# Altium schematic symbol library USB-Mini_USB-Micro_USB.SchLib: 33 symbols
Pins are listed as number, name and electrical type; pins without a type are passive.

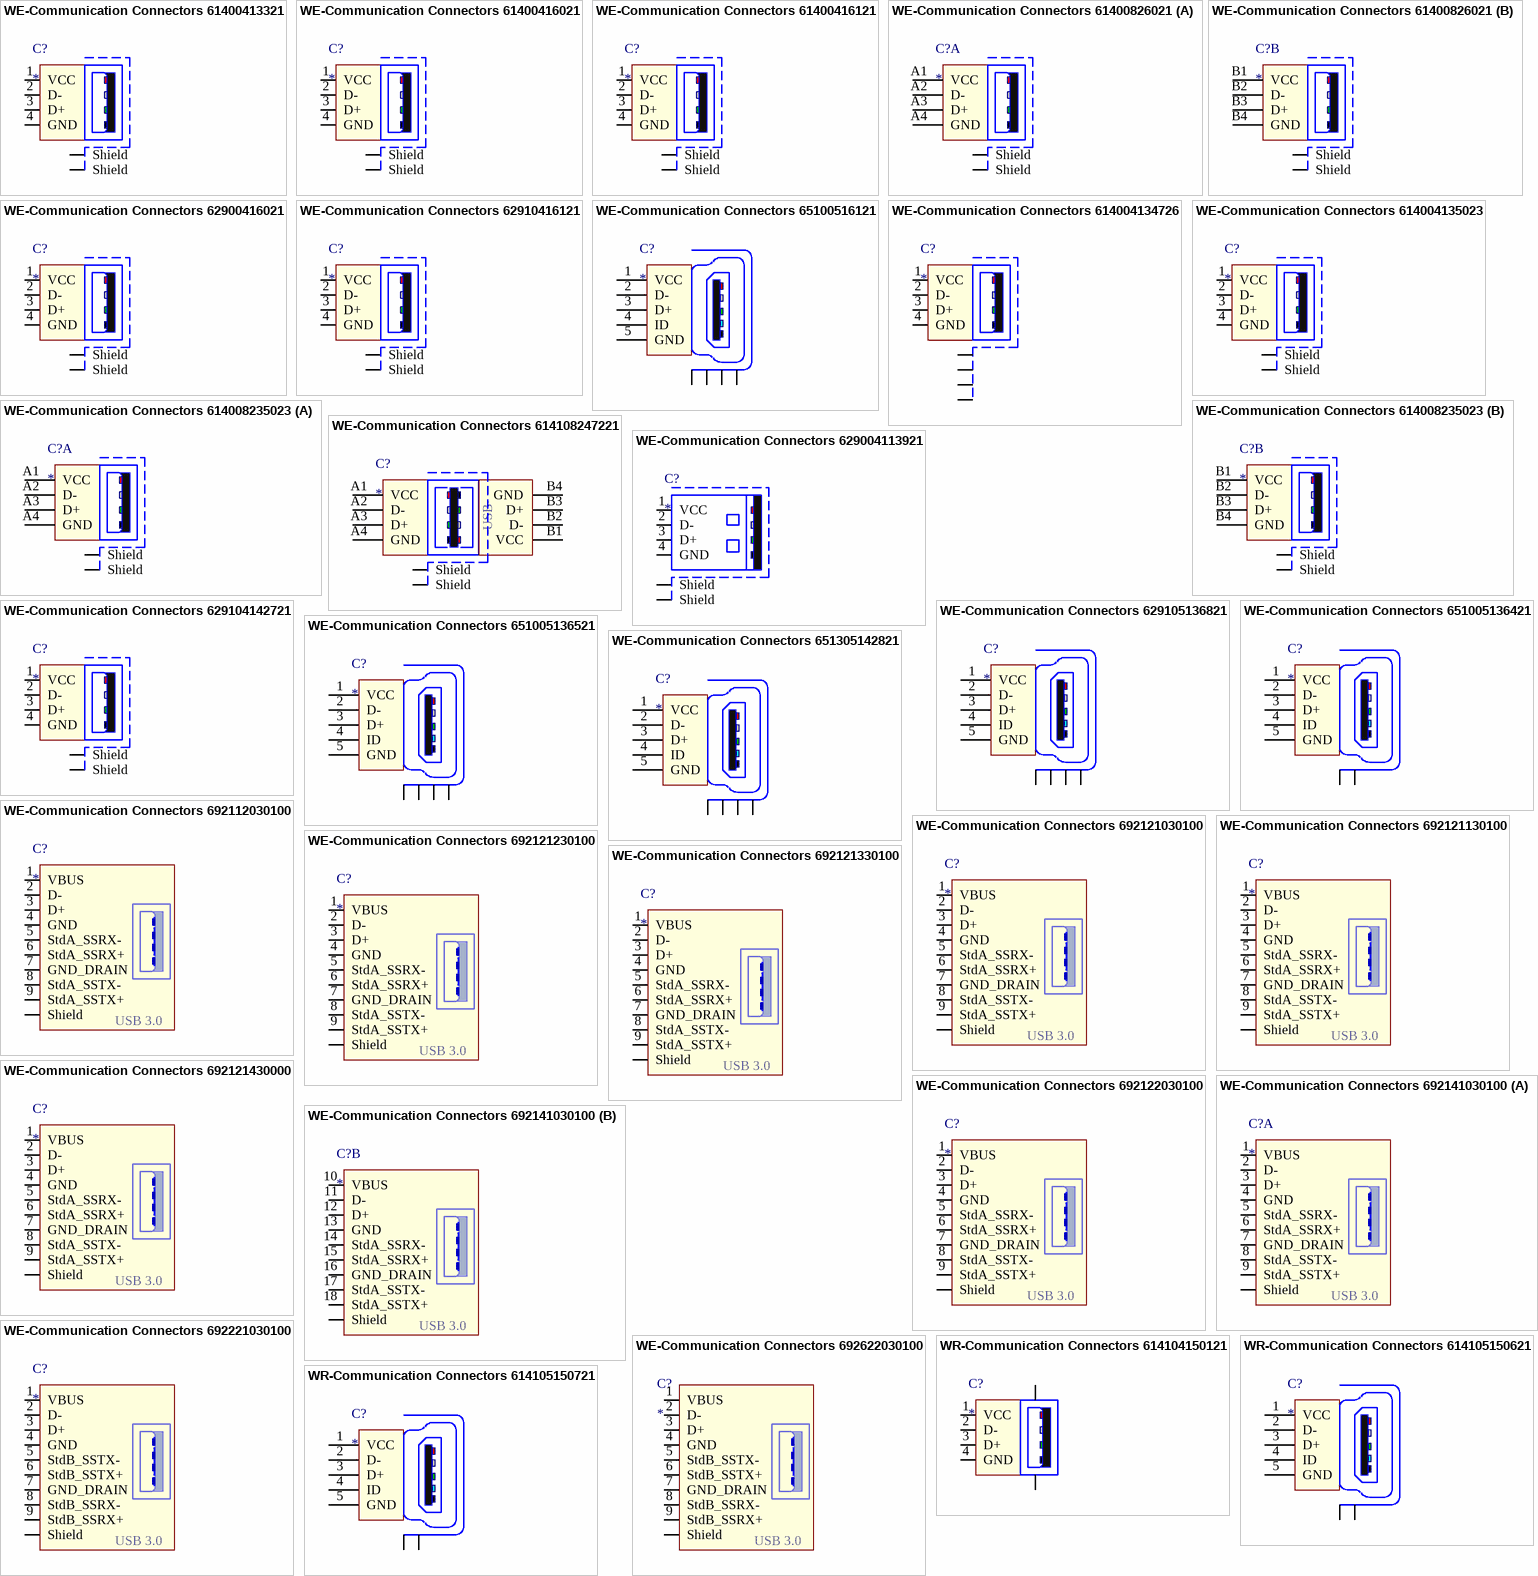
[diagram p0: symbols WE-Communication Connectors 61400413321 to WR-Communication Connectors 614105150721]

## WE-Communication Connectors 61400413321
designator C?
WR-COM USB Vertical Type B; Manufacturer: Würth Elektronik eiSos GmbH; partNo: 61400413321; ComponentLink1 Description: Manufacturer; ComponentLink2 Description: Datasheet; NoPins: 4; ComponentLink1URL: http://www.we-online.de; ComponentLink2URL: http://katalog.we-online.de/em/datasheet/61400413321.pdf; Created by: Karrer Zheng; Created Date: 10/10/2014
footprint 61400413321 (F Str 04p Btype vertical)
pins: 1 VCC, 2 D-, 3 D+, 4 GND, Z1 Shield, Z2 Shield

## WE-Communication Connectors 61400416021
designator C?
WR-COM USB RA Type A; Manufacturer: Würth Elektronik eiSos GmbH; partNo: 61400416021; ComponentLink1 Description: Manufacturer; ComponentLink2 Description: Datasheet; NoPins: 4; ComponentLink1URL: http://www.we-online.de; ComponentLink2URL: http://katalog.we-online.de/em/datasheet/61400416021.pdf; Created by: Karrer Zheng; Created Date: 10/10/2014
footprint 61400416021
pins: 1 VCC, 2 D-, 3 D+, 4 GND, Z1 Shield, Z2 Shield

## WE-Communication Connectors 61400416121
designator C?
WR-COM Horizontal USB Type B; Manufacturer: Würth Elektronik eiSos GmbH; partNo: 61400416121; ComponentLink1 Description: Manufacturer; ComponentLink2 Description: Datasheet; NoPins: 4; ComponentLink1URL: http://www.we-online.de; ComponentLink2URL: http://katalog.we-online.de/em/datasheet/61400416121.pdf; Created by: Karrer Zheng; Created Date: 10/10/2014
footprint 61400416121
pins: 1 VCC, 2 D-, 3 D+, 4 GND, Z1 Shield, Z2 Shield

## WE-Communication Connectors 61400826021
designator C?
WR-COM USB Type A Dual Stacked; Manufacturer: Würth Elektronik eiSos GmbH; partNo: 61400826021; ComponentLink1 Description: Manufacturer; ComponentLink2 Description: Datasheet; NoPins: 8; ComponentLink1URL: http://www.we-online.de; ComponentLink2URL: http://katalog.we-online.de/em/datasheet/61400826021.pdf; Created by: Karrer Zheng; Created Date: 10/10/2014
footprint 61400826021 (2 x 4 pins)
part A pins: A1 VCC, A2 D-, A3 D+, A4 GND, Z1 Shield, Z2 Shield
part B pins: B1 VCC, B2 D-, B3 D+, B4 GND, Z3 Shield, Z4 Shield

## WE-Communication Connectors 62900416021
designator C?
WR-COM USB SMT Type A; Manufacturer: Würth Elektronik eiSos GmbH; partNo: 62900416021; ComponentLink1 Description: Manufacturer; ComponentLink2 Description: Datasheet; NoPins: 4; ComponentLink1URL: http://www.we-online.de; ComponentLink2URL: http://katalog.we-online.de/em/datasheet/62900416021.pdf; Created by: Karrer Zheng; Created Date: 10/10/2014
footprint 62900416021
pins: 1 VCC, 2 D-, 3 D+, 4 GND, Z1 Shield, Z2 Shield

## WE-Communication Connectors 62910416121
designator C?
WR-COM USB Type B SMT T&R packaging; Manufacturer: Würth Elektronik eiSos GmbH; partNo: 62910416121; ComponentLink1 Description: Manufacturer; ComponentLink2 Description: Datasheet; NoPins: 4; ComponentLink1URL: http://www.we-online.de; ComponentLink2URL: http://katalog.we-online.de/em/datasheet/62910416121.pdf; Created by: Karrer Zheng; Created Date: 10/10/2014
footprint 62910416121
pins: 1 VCC, 2 D-, 3 D+, 4 GND, Z1 Shield, Z2 Shield

## WE-Communication Connectors 65100516121
designator C?
WR-COM Mini USB SMT Type B 5 Contacts; Manufacturer: Würth Elektronik eiSos GmbH; partNo: 65100516121; ComponentLink1 Description: Manufacturer; ComponentLink2 Description: Datasheet; NoPins: 5; ComponentLink1URL: http://www.we-online.de; ComponentLink2URL: http://katalog.we-online.de/em/datasheet/65100516121.pdf; Created by: Karrer Zheng; Created Date: 10/10/2014
footprint 65100516121
pins: 1 VCC, 2 D-, 3 D+, 4 ID, 5 GND, Z1 Shield, Z2 Shield, Z3 Shield, Z4 Shield

## WE-Communication Connectors 614004134726
designator C?
WR-COM USB Type A Up-Right; Manufacturer: Würth Elektronik eiSos GmbH; partNo: 614004134726; ComponentLink1 Description: Manufacturer; ComponentLink2 Description: Datasheet; NoPins: 4; ComponentLink1URL: http://www.we-online.de; ComponentLink2URL: http://katalog.we-online.de/em/datasheet/614004134726.pdf; Created by: Karrer Zheng; Created Date: 10/10/2014
footprint 614004134726
pins: 1 VCC, 2 D-, 3 D+, 4 GND, Z1 Shield, Z2 Shield, Z3 Shield, Z4 Shield

## WE-Communication Connectors 614004135023
designator C?
WR-COM USB Type A Vertical; Manufacturer: Würth Elektronik eiSos GmbH; partNo: 614004135023; ComponentLink1 Description: Manufacturer; ComponentLink2 Description: Datasheet; NoPins: 4; ComponentLink1URL: http://www.we-online.de; ComponentLink2URL: http://katalog.we-online.de/em/datasheet/614004135023.pdf; Created by: Karrer Zheng; Created Date: 10/10/2014
footprint 614004135023
pins: 1 VCC, 2 D-, 3 D+, 4 GND, Z1 Shield, Z2 Shield

## WE-Communication Connectors 614008235023
designator C?
WR-COM Dual USB Type A Vertical; Manufacturer: Würth Elektronik eiSos GmbH; partNo: 614008235023; ComponentLink1 Description: Manufacturer; ComponentLink2 Description: Datasheet; NoPins: 8; ComponentLink1URL: http://www.we-online.de; ComponentLink2URL: http://katalog.we-online.de/em/datasheet/614008235023.pdf; Created by: Karrer Zheng; Created Date: 10/10/2014
footprint 614008235023 (2 x 4 pins)
part A pins: A1 VCC, A2 D-, A3 D+, A4 GND, Z1 Shield, Z2 Shield
part B pins: B1 VCC, B2 D-, B3 D+, B4 GND, Z1 Shield, Z2 Shield

## WE-Communication Connectors 614108247221
designator C?
WR-COM USB 2.0_Reversible_Type A_Horizontal_THT; Manufacturer: Würth Elektronik eiSos GmbH; partNo: 614108247221; ComponentLink1 Description: Manufacturer; ComponentLink2 Description: Datasheet; NoPins: 8; ComponentLink1URL: http://www.we-online.de; ComponentLink2URL: http://katalog.we-online.de/em/datasheet/614108247221.pdf; Created by: Karrer Zheng; Created Date: 10/10/2014
footprint 614108247221 (WR-COM USB_Reversible_Type A_Horizontal_THT_Black)
pins: A1 VCC, A2 D-, A3 D+, A4 GND, B1 VCC, B2 D-, B3 D+, B4 GND, Z1 Shield, Z2 Shield
text: USB

## WE-Communication Connectors 629004113921
designator C?
WR-COM USB Type A SMT with Clip; Manufacturer: Würth Elektronik eiSos GmbH; partNo: 629004113921; ComponentLink1 Description: Manufacturer; ComponentLink2 Description: Datasheet; NoPins: 4; ComponentLink1URL: http://www.we-online.de; ComponentLink2URL: http://katalog.we-online.de/em/datasheet/629004113921.pdf; Created by: Karrer Zheng; Created Date: 10/10/2014
footprint 629004113921
pins: 1 VCC, 2 D-, 3 D+, 4 GND, Z1 Shield, Z2 Shield

## WE-Communication Connectors 629104142721
designator C?
WR-COM USB Type B SMT T&R packaging; Manufacturer: Würth Elektronik eiSos GmbH; partNo: 629104142721; ComponentLink1 Description: Manufacturer; ComponentLink2 Description: Datasheet; NoPins: 4; ComponentLink1URL: http://www.we-online.de; ComponentLink2URL: http://katalog.we-online.de/em/datasheet/629104142721.pdf; Created by: Karrer Zheng; Created Date: 10/10/2014
footprint 629104142721
pins: 1 VCC, 2 D-, 3 D+, 4 GND, Z1 Shield, Z2 Shield

## WE-Communication Connectors 629105136821
designator C?
WR-COM Micro USB SMT Type B; Manufacturer: Würth Elektronik eiSos GmbH; partNo: 629105136821; ComponentLink1 Description: Manufacturer; ComponentLink2 Description: Datasheet; NoPins: 5; ComponentLink1URL: http://www.we-online.de; ComponentLink2URL: http://katalog.we-online.de/em/datasheet/629105136821.pdf; Created by: Karrer Zheng; Created Date: 10/10/2014
footprint 629105136821
pins: 1 VCC, 2 D-, 3 D+, 4 ID, 5 GND, Z1 Shield, Z2 Shield, Z3 Shield, Z4 Shield

## WE-Communication Connectors 651005136421
designator C?
WR-COM Mini USB Vertical TH Type B 5 Contacts; Manufacturer: Würth Elektronik eiSos GmbH; partNo: 651005136421; ComponentLink1 Description: Manufacturer; ComponentLink2 Description: Datasheet; NoPins: 5; ComponentLink1URL: http://www.we-online.de; ComponentLink2URL: http://katalog.we-online.de/em/datasheet/651005136421.pdf; Created by: Karrer Zheng; Created Date: 10/10/2014
footprint 651005136421
pins: 1 VCC, 2 D-, 3 D+, 4 ID, 5 GND, Z1 Shield, Z2 Shield

## WE-Communication Connectors 651005136521
designator C?
WR-COM Mini USB Horizontal TH Type B 5 Contacts; Manufacturer: Würth Elektronik eiSos GmbH; partNo: 651005136521; ComponentLink1 Description: Manufacturer; ComponentLink2 Description: Datasheet; NoPins: 5; ComponentLink1URL: http://www.we-online.de; ComponentLink2URL: http://katalog.we-online.de/em/datasheet/651005136521.pdf; Created by: Karrer Zheng; Created Date: 10/10/2014
footprint 651005136521
pins: 1 VCC, 2 D-, 3 D+, 4 ID, 5 GND, Z1 Shield, Z2 Shield, Z3 Shield, Z4 Shield

## WE-Communication Connectors 651305142821
designator C?
WR-COM Mini USB SMT Type AB 5 Contacts; Manufacturer: Würth Elektronik eiSos GmbH; partNo: 651305142821; ComponentLink1 Description: Manufacturer; ComponentLink2 Description: Datasheet; NoPins: 5; ComponentLink1URL: http://www.we-online.de; ComponentLink2URL: http://katalog.we-online.de/em/datasheet/651305142821.pdf; Created by: Karrer Zheng; Created Date: 10/10/2014
footprint 651305142821
pins: 1 VCC, 2 D-, 3 D+, 4 ID, 5 GND, Z1 Shield, Z2 Shield, Z3 Shield, Z4 Shield

## WE-Communication Connectors 692112030100
designator C?
WR-COM USB 3.0 Horizontal Plug Type A; Manufacturer: Würth Elektronik eiSos GmbH; partNo: 692112030100; ComponentLink1 Description: Manufacturer; ComponentLink2 Description: Datasheet; NoPins: 9; ComponentLink1URL: http://www.we-online.de; ComponentLink2URL: http://katalog.we-online.de/em/datasheet/692112030100.pdf; Created by: Karrer Zheng; Created Date: 10/10/2014
footprint 692112030100
pins: 1 VBUS, 2 D-, 3 D+, 4 GND, 5 StdA_SSRX-, 6 StdA_SSRX+, 7 GND_DRAIN, 8 StdA_SSTX-, 9 StdA_SSTX+, Z1 Shield
text: USB 3.0

## WE-Communication Connectors 692121030100
designator C?
WR-COM USB 3.0 Horizontal Type A; Manufacturer: Würth Elektronik eiSos GmbH; partNo: 692121030100; ComponentLink1 Description: Manufacturer; ComponentLink2 Description: Datasheet; NoPins: 9; ComponentLink1URL: http://www.we-online.de; ComponentLink2URL: http://katalog.we-online.de/em/datasheet/692121030100.pdf; Created by: Karrer Zheng; Created Date: 10/10/2014
footprint 692121030100
pins: 1 VBUS, 2 D-, 3 D+, 4 GND, 5 StdA_SSRX-, 6 StdA_SSRX+, 7 GND_DRAIN, 8 StdA_SSTX-, 9 StdA_SSTX+, Z1 Shield
text: USB 3.0

## WE-Communication Connectors 692121130100
designator C?
WR-COM USB 3.0 Horizontal Type A; Manufacturer: Würth Elektronik eiSos GmbH; partNo: 692121130100; ComponentLink1 Description: Manufacturer; ComponentLink2 Description: Datasheet; NoPins: 9; ComponentLink1URL: http://www.we-online.de; ComponentLink2URL: http://katalog.we-online.de/em/datasheet/692121130100.pdf; Created by: Karrer Zheng; Created Date: 10/10/2014
footprint 692121130100
pins: 1 VBUS, 2 D-, 3 D+, 4 GND, 5 StdA_SSRX-, 6 StdA_SSRX+, 7 GND_DRAIN, 8 StdA_SSTX-, 9 StdA_SSTX+, Z1 Shield
text: USB 3.0

## WE-Communication Connectors 692121230100
designator C?
WR-COM USB 3.0 Horizontal Type A; Manufacturer: Würth Elektronik eiSos GmbH; partNo: 692121230100; ComponentLink1 Description: Manufacturer; ComponentLink2 Description: Datasheet; NoPins: 9; ComponentLink1URL: http://www.we-online.de; ComponentLink2URL: http://katalog.we-online.de/em/datasheet/692121230100.pdf; Created by: Karrer Zheng; Created Date: 10/10/2014
footprint 692121230100
pins: 1 VBUS, 2 D-, 3 D+, 4 GND, 5 StdA_SSRX-, 6 StdA_SSRX+, 7 GND_DRAIN, 8 StdA_SSTX-, 9 StdA_SSTX+, Z1 Shield
text: USB 3.0

## WE-Communication Connectors 692121330100
designator C?
WR-COM USB 3.0 Horizontal Type A; Manufacturer: Würth Elektronik eiSos GmbH; partNo: 692121330100; ComponentLink1 Description: Manufacturer; ComponentLink2 Description: Datasheet; NoPins: 9; ComponentLink1URL: http://www.we-online.de; ComponentLink2URL: http://katalog.we-online.de/em/datasheet/692121330100.pdf; Created by: Karrer Zheng; Created Date: 10/10/2014
footprint 692121330100
pins: 1 VBUS, 2 D-, 3 D+, 4 GND, 5 StdA_SSRX-, 6 StdA_SSRX+, 7 GND_DRAIN, 8 StdA_SSTX-, 9 StdA_SSTX+, Z1 Shield
text: USB 3.0

## WE-Communication Connectors 692121430000
designator C?
WR-COM USB 3.0 Vertical Type A; Manufacturer: Würth Elektronik eiSos GmbH; partNo: 692121430000; ComponentLink1 Description: Manufacturer; ComponentLink2 Description: Datasheet; NoPins: 9; ComponentLink1URL: http://www.we-online.de; ComponentLink2URL: http://katalog.we-online.de/em/datasheet/692121430000.pdf; Created by: Karrer Zheng; Created Date: 10/10/2014
footprint 692121430000
pins: 1 VBUS, 2 D-, 3 D+, 4 GND, 5 StdA_SSRX-, 6 StdA_SSRX+, 7 GND_DRAIN, 8 StdA_SSTX-, 9 StdA_SSTX+, Z1 Shield
text: USB 3.0

## WE-Communication Connectors 692122030100
designator C?
WR-COM USB 3.0 Horizontal Type A; Manufacturer: Würth Elektronik eiSos GmbH; partNo: 692122030100; ComponentLink1 Description: Manufacturer; ComponentLink2 Description: Datasheet; NoPins: 9; ComponentLink1URL: http://www.we-online.de; ComponentLink2URL: http://katalog.we-online.de/em/datasheet/692122030100.pdf; Created by: Karrer Zheng; Created Date: 10/10/2014
footprint 692122030100
pins: 1 VBUS, 2 D-, 3 D+, 4 GND, 5 StdA_SSRX-, 6 StdA_SSRX+, 7 GND_DRAIN, 8 StdA_SSTX-, 9 StdA_SSTX+, Z1 Shield
text: USB 3.0

## WE-Communication Connectors 692141030100
designator C?
WR-COM USB 3.0 Horizontal Type A; Manufacturer: Würth Elektronik eiSos GmbH; partNo: 692141030100; ComponentLink1 Description: Manufacturer; ComponentLink2 Description: Datasheet; NoPins: 18; ComponentLink1URL: http://www.we-online.de; ComponentLink2URL: http://katalog.we-online.de/em/datasheet/692141030100.pdf; Created by: Karrer Zheng; Created Date: 10/10/2014
footprint 692141030100
part A pins: 1 VBUS, 2 D-, 3 D+, 4 GND, 5 StdA_SSRX-, 6 StdA_SSRX+, 7 GND_DRAIN, 8 StdA_SSTX-, 9 StdA_SSTX+, Z1 Shield
part B pins: 10 VBUS, 11 D-, 12 D+, 13 GND, 14 StdA_SSRX-, 15 StdA_SSRX+, 16 GND_DRAIN, 17 StdA_SSTX-, 18 StdA_SSTX+, Z1 Shield
part A text: USB 3.0
part B text: USB 3.0

## WE-Communication Connectors 692221030100
designator C?
WR-COM USB 3.0 Horizontal Type B; Manufacturer: Würth Elektronik eiSos GmbH; partNo: 692221030100; ComponentLink1 Description: Manufacturer; ComponentLink2 Description: Datasheet; NoPins: 9; ComponentLink1URL: http://www.we-online.de; ComponentLink2URL: http://katalog.we-online.de/em/datasheet/692221030100.pdf; Created by: Karrer Zheng; Created Date: 10/10/2014
footprint 692221030100
pins: 1 VBUS, 2 D-, 3 D+, 4 GND, 5 StdB_SSTX-, 6 StdB_SSTX+, 7 GND_DRAIN, 8 StdB_SSRX-, 9 StdB_SSRX+, Z1 Shield
text: USB 3.0

## WE-Communication Connectors 692622030100
designator C?
WR-COM USB 3.0 Horizontal Micro B; Manufacturer: Würth Elektronik eiSos GmbH; partNo: 692622030100; ComponentLink1 Description: Manufacturer; ComponentLink2 Description: Datasheet; NoPins: 10; ComponentLink1URL: http://www.we-online.de; ComponentLink2URL: http://katalog.we-online.de/em/datasheet/692622030100.pdf; Created by: Karrer Zheng; Created Date: 10/10/2014
footprint 692622030100
pins: 1 VBUS, 2 D-, 3 D+, 4 GND, 5 StdB_SSTX-, 6 StdB_SSTX+, 7 GND_DRAIN, 8 StdB_SSRX-, 9 StdB_SSRX+, Z1 Shield
text: USB 3.0

## WR-Communication Connectors 614104150121
designator C?
WR-COM_USB_Type A_Reverse Horizontal_THT; Manufacturer: Würth Elektronik eiSos GmbH; partNo: 614104150121; ComponentLink1 Description: Manufacturer; ComponentLink2 Description: Datasheet; NoPins: 4; ComponentLink1URL: http://www.we-online.de; ComponentLink2URL: http://katalog.we-online.de/em/datasheet/614104150121.pdf; Created by: Karrer Zheng; Created Date: 10/20/2014
footprint 614104150121 (WR-COM_USB_Type A_Reverse Horizontal_THT Type A Reverse Horizontal THT - with Clips - Slim type for PCB thickness 1.20mm)
pins: 1 VCC, 2 D-, 3 D+, 4 GND, Z1 Shield, Z2 Shield

## WR-Communication Connectors 614105150621
designator C?
WR-COM_USB_Micro Type AB_Vertical_THT; Manufacturer: Würth Elektronik eiSos GmbH; partNo: 614105150621; ComponentLink1 Description: Manufacturer; ComponentLink2 Description: Datasheet; NoPins: 5; ComponentLink1URL: http://www.we-online.de; ComponentLink2URL: http://katalog.we-online.de/em/datasheet/614105150621.pdf; Created by: Karrer Zheng; Created Date: 10/24/2014
footprint 614105150621
pins: 1 VCC, 2 D-, 3 D+, 4 ID, 5 GND, Z1 Shield, Z2 Shield

## WR-Communication Connectors 614105150721
designator C?
WR-COM_USB_Micro Type B_Vertical_THT; Manufacturer: Würth Elektronik eiSos GmbH; partNo: 614105150721; ComponentLink1 Description: Manufacturer; ComponentLink2 Description: Datasheet; NoPins: 5; ComponentLink1URL: http://www.we-online.de; ComponentLink2URL: http://katalog.we-online.de/em/datasheet/614105150721.pdf; Created by: Karrer Zheng; Created Date: 10/25/2014
footprint 614105150721
pins: 1 VCC, 2 D-, 3 D+, 4 ID, 5 GND, Z1 Shield, Z2 Shield

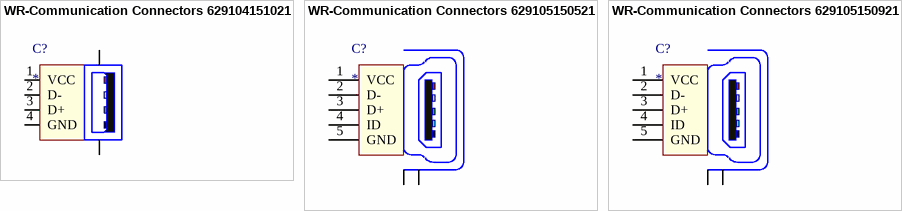
[diagram p1: symbols WR-Communication Connectors 629104151021 to WR-Communication Connectors 629105150921]

## WR-Communication Connectors 629104151021
designator C?
WR-COM_USB_Type A_Horizontal_SMT; Manufacturer: Würth Elektronik eiSos GmbH; partNo: 629104151021; ComponentLink1 Description: Manufacturer; ComponentLink2 Description: Datasheet; NoPins: 4; ComponentLink1URL: http://www.we-online.de; ComponentLink2URL: http://katalog.we-online.de/em/datasheet/629104151021.pdf; Created by: Karrer Zheng; Created Date: 10/22/2014
footprint 629104151021
pins: 1 VCC, 2 D-, 3 D+, 4 GND, Z1 Shield, Z2 Shield

## WR-Communication Connectors 629105150521
designator C?
WR-COM_USB_Micro Type B_Horizontal_SMT; Manufacturer: Würth Elektronik eiSos GmbH; partNo: 629105150521; ComponentLink1 Description: Manufacturer; ComponentLink2 Description: Datasheet; NoPins: 5; ComponentLink1URL: http://www.we-online.de; ComponentLink2URL: http://katalog.we-online.de/em/datasheet/629105150521.pdf; Created by: Karrer Zheng; Created Date: 10/21/2014
footprint 629105150521
pins: 1 VCC, 2 D-, 3 D+, 4 ID, 5 GND, Z1 Shield, Z2 Shield

## WR-Communication Connectors 629105150921
designator C?
WR-COM_USB_Micro Type AB_Horizontal_SMT; Manufacturer: Würth Elektronik eiSos GmbH; partNo: 629105150921; ComponentLink1 Description: Manufacturer; ComponentLink2 Description: Datasheet; NoPins: 5; ComponentLink1URL: http://www.we-online.de; ComponentLink2URL: http://katalog.we-online.de/em/datasheet/629105150921.pdf; Created by: Karrer Zheng; Created Date: 10/23/2014
footprint 629105150921
pins: 1 VCC, 2 D-, 3 D+, 4 ID, 5 GND, Z1 Shield, Z2 Shield